# EAGLE library part SPK-E (library BLK)
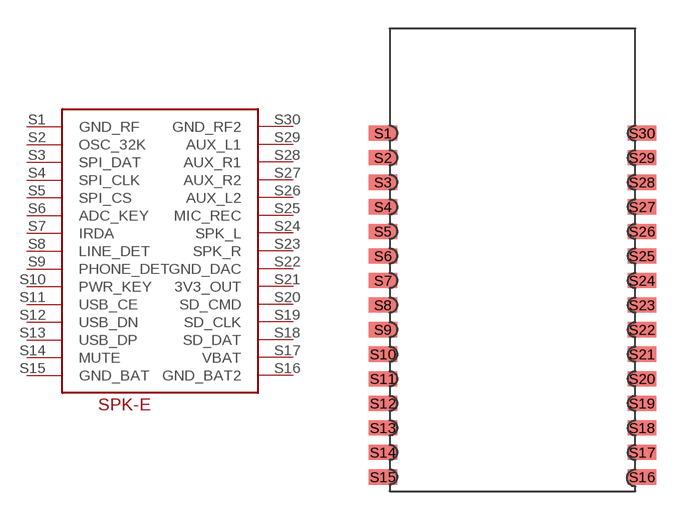
[diagram p0: symbol with the pads of SPK-E; footprint SPK-E]

Designator prefix -

## SPK-E  [SPK-E]
S1  GND_RF
S2  OSC_32K
S3  SPI_DAT
S4  SPI_CLK
S5  SPI_CS
S6  ADC_KEY
S7  IRDA
S8  LINE_DET
S9  PHONE_DET
S10  PWR_KEY
S11  USB_CE
S12  USB_DN
S13  USB_DP
S14  MUTE
S15  GND_BAT
S16  GND_BAT2
S17  VBAT
S18  SD_DAT
S19  SD_CLK
S20  SD_CMD
S21  3V3_OUT
S22  GND_DAC
S23  SPK_R
S24  SPK_L
S25  MIC_REC
S26  AUX_L2
S27  AUX_R2
S28  AUX_R1
S29  AUX_L1
S30  GND_RF2

## Footprint SPK-E (pad centres in mm)
smd 1.5 x 0.8: S1 -0.35,18.95; S2 -0.35,17.65; S3 -0.35,16.35; S4 -0.35,15.05; S5 -0.35,13.75; S6 -0.35,12.45; S7 -0.35,11.15; S8 -0.35,9.85; S9 -0.35,8.55; S10 -0.35,7.25; S11 -0.35,5.95; S12 -0.35,4.65; S13 -0.35,3.35; S14 -0.35,2.05; S15 -0.35,0.75; S16 13.35,0.75; S17 13.35,2.05; S18 13.35,3.35; S19 13.35,4.65; S20 13.35,5.95; S21 13.35,7.25; S22 13.35,8.55; S23 13.35,9.85; S24 13.35,11.15; S25 13.35,12.45; S26 13.35,13.75; S27 13.35,15.05; S28 13.35,16.35; S29 13.35,17.65; S30 13.35,18.95